# Altium footprint library TSSOP+MSOP+VSSOP.pcblib: 4 footprints
Each footprint in its own frame and in the unit in brackets; x right, y up, seen from the top. Pads: shape width x height; smd on the part's side, far side on the other; paste and mask are expansions set on the pad; w line width, h text height; cw(c..) or ccw(c..) is an arc to the next point about the centre after c.
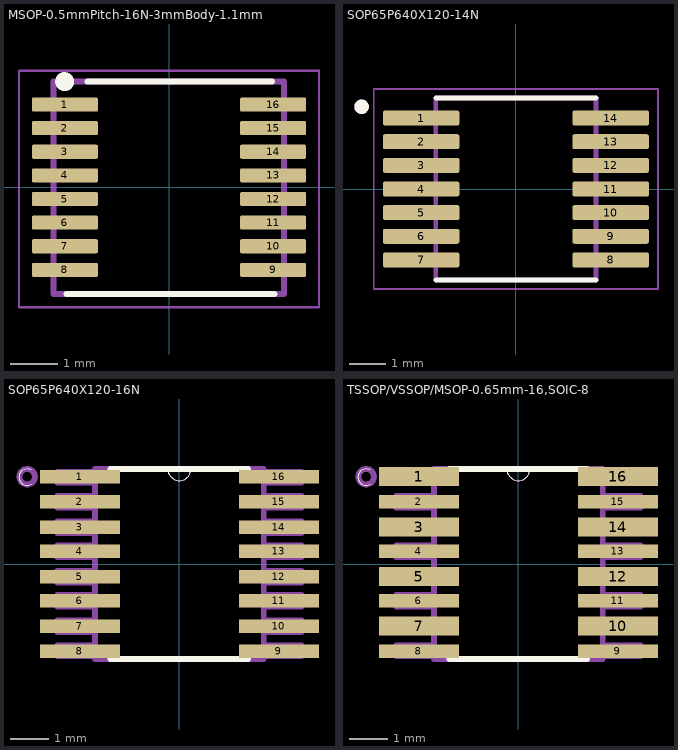
[diagram p0: the footprints below, top view; thin cyan lines are the x and y axes]

## MSOP-0.5mmPitch-16N-3mmBody-1.1mm [mm] "MSOP, 16 pin, 0.5mm pitch, 3mm wide, nominal pads, 1.1mm high"
height 1.1
pads (16):
  rrect25% 1.4x0.3 smd mask+0.05: 1(-2.204,1.75) 2(-2.204,1.25) 3(-2.204,0.75) 4(-2.204,0.25) 5(-2.204,-0.25) 6(-2.204,-0.75) 7(-2.204,-1.25) 8(-2.204,-1.75) 9(2.203,-1.75) 10(2.203,-1.25) 11(2.203,-0.75) 12(2.203,-0.25) 13(2.203,0.25) 14(2.203,0.75) 15(2.203,1.25) 16(2.203,1.75)
Top Overlay:
  circle w0.2: c-2.21,2.235 r0.1
  lines w0.127: -2.165,-2.261 2.235,-2.261 ; -1.727,2.235 2.184,2.235
Mechanical 13:
  circle w0.2: c-2.21,2.235 r0.1
  lines w0.127: -2.45,-2.261 2.438,-2.261 2.438,2.235 -2.45,2.235 -2.45,-2.261
Mechanical 15:
  lines w0.05: -3.175,-2.54 3.175,-2.54 3.175,2.464 -3.175,2.464 -3.175,-2.54
3D body "MSOP16-3-0.5mm.STEP": height 1.1, standoff 0, extent -2.45,-2.25 2.45,2.25

## SOP65P640X120-14N [mm]
pads (14):
  rrect25% 2.1x0.41 smd: 1(-2.605,1.95) 2(-2.605,1.3) 3(-2.605,0.65) 4(-2.605,0) 5(-2.605,-0.65) 6(-2.605,-1.3) 7(-2.605,-1.95) 8(2.605,-1.95) 9(2.605,-1.3) 10(2.605,-0.65) 11(2.605,0) 12(2.605,0.65) 13(2.605,1.3) 14(2.605,1.95)
Top Overlay:
  circle w0.2: c-4.24,2.26 r0.1
  lines w0.127: -2.2,-2.5 2.2,-2.5 ; -2.2,2.5 2.2,2.5
Mechanical 13:
  circle w0.2: c-4.24,2.26 r0.1
  lines w0.127: -2.2,-2.5 2.2,-2.5 2.2,2.5 -2.2,2.5 -2.2,-2.5
Mechanical 15:
  lines w0.05: -3.905,-2.75 3.905,-2.75 3.905,2.75 -3.905,2.75 -3.905,-2.75
3D body "TLV9004IPWR.step": height 1.2, standoff 0, extent -3.2,-2.5 3.2,2.5
3D body "MSOP8_HAU.step": height 0.94, standoff 0, extent -2.451,-0.534 2.451,2.464

## SOP65P640X120-16N [mm]
pads (16):
  rect 2.1x0.356 smd: 1(-2.605,2.286) 2(-2.605,1.626) 3(-2.605,0.965) 4(-2.605,0.33) 5(-2.605,-0.33) 6(-2.605,-0.965) 7(-2.605,-1.626) 8(-2.605,-2.286) 9(2.605,-2.286) 10(2.605,-1.626) 11(2.605,-0.965) 12(2.605,-0.33) 13(2.605,0.33) 14(2.605,0.965) 15(2.605,1.626) 16(2.605,2.286)
Top Overlay:
  lines w0: -3.885,2.084 cw(c-3.985,2.273) -3.885,2.463 ccw(c-3.985,2.273) -3.885,2.084 ; -0.305,2.489 ccw(c0,2.489) 0.305,2.489 cw(c0,2.489) -0.305,2.489
  lines w0.152: -1.803,-2.489 1.803,-2.489 ; -1.803,2.489 -0.305,2.489 0.305,2.489 1.803,2.489
Mechanical 4:
  drawing of 152 lines, arcs and shapes, not listed
3D body "MSOP8_HAU.step": height 0.94, standoff 0, extent -2.451,-0.178 2.451,2.82
3D body "ADC128S052CIMT.STEP": height 1.17, standoff -0.03, extent -3.2,-2.5 3.2,2.5

## TSSOP/VSSOP/MSOP-0.65mm-16,SOIC-8 [mm] "TSSOP/VSSOP/MSOP-0.65mm 16-pin,  or SOIC-8"
pads (16):
  rect 2.1x0.5 smd mask+0.05: 1(-2.605,2.286) 3(-2.605,0.965) 5(-2.605,-0.33) 7(-2.605,-1.626) 10(2.605,-1.626) 12(2.605,-0.33) 14(2.605,0.965) 16(2.605,2.286)
  rect 2.1x0.35 smd mask+0.05: 2(-2.605,1.626) 4(-2.605,0.33) 6(-2.605,-0.965) 8(-2.605,-2.286) 9(2.605,-2.286) 11(2.605,-0.965) 13(2.605,0.33) 15(2.605,1.626)
Top Overlay:
  lines w0: -3.885,2.084 cw(c-3.985,2.273) -3.885,2.463 ccw(c-3.985,2.273) -3.885,2.084 ; -0.305,2.489 ccw(c0,2.489) 0.305,2.489 cw(c0,2.489) -0.305,2.489
  lines w0.152: -1.803,-2.489 1.803,-2.489 ; -1.803,2.489 -0.305,2.489 0.305,2.489 1.803,2.489
Mechanical 4:
  drawing of 152 lines, arcs and shapes, not listed
3D body "ADC128S052CIMT.STEP": height 1.17, standoff -0.03, extent -3.2,-2.5 3.2,2.5
3D body "MSOP8_HAU.step": height 0.94, standoff 0, extent -2.451,-0.203 2.451,2.795
3D body "TLC555CDR.step": height 1.75, standoff 0, extent -3,-2.12 3,2.78